# Altium footprint library UART Header Pins.PcbLib: 1 footprints
Each footprint in its own frame and in the unit in brackets; x right, y up, seen from the top. Pads: shape width x height; smd on the part's side, far side on the other; paste and mask are expansions set on the pad; w line width, h text height; cw(c..) or ccw(c..) is an arc to the next point about the centre after c.
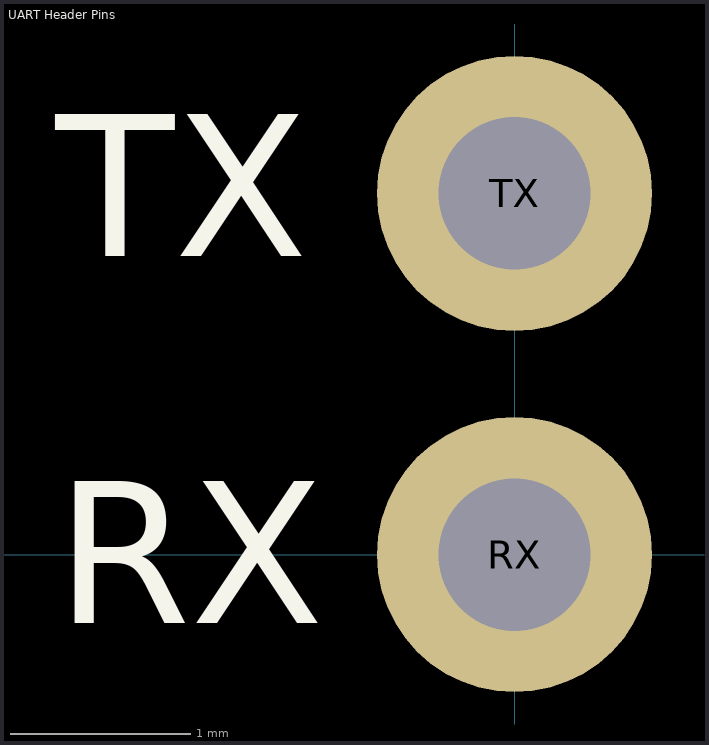
[diagram p0: the footprint, top view; thin cyan lines are the x and y axes]

## UART Header Pins [mil]
pads (2):
  round 60 hole 33.23: RX(0,0) TX(0,78.74)
Top Overlay:
  text "TX" at -100,65 h30.98
  text "RX" at -100,-15 h30.98